# EAGLE library part DG643 (library vishay)
The DG641/642/643 are high performance monolithic video switches designed for switching wide bandwidth analog and digital signals
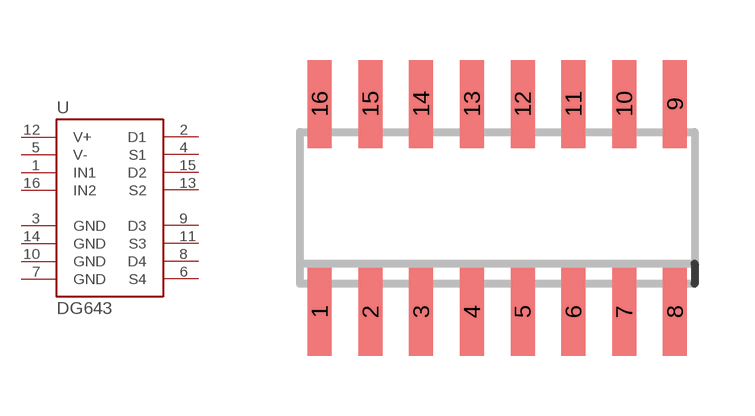
[diagram p0: symbol with the pads of SOIC16N; footprint SOIC16N]

Designator prefix -

## DG643  [SOIC16N]
1  IN1
2  D1
3  GND
4  S1
5  V-
6  S4
7  GND
8  D4
9  D3
10  GND
11  S3
12  V+
13  S2
14  GND
15  D2
16  IN2

## Footprint SOIC16N (pad centres in mm)
SMALL OUTLINE INTEGRATED CIRCUIT
smd 0.6 x 2.2: 1 -4.445,-2.6; 2 -3.175,-2.6; 3 -1.905,-2.6; 4 -0.635,-2.6; 5 0.635,-2.6; 6 1.905,-2.6; 7 3.175,-2.6; 8 4.445,-2.6; 9 4.445,2.6; 10 3.175,2.6; 11 1.905,2.6; 12 0.635,2.6; 13 -0.635,2.6; 14 -1.905,2.6; 15 -3.175,2.6; 16 -4.445,2.6